# EAGLE library part LCD-2.0INCH (library LCD-3.5INCH)
For use with coldtears electronics 2.1INCH ILI9325LCD
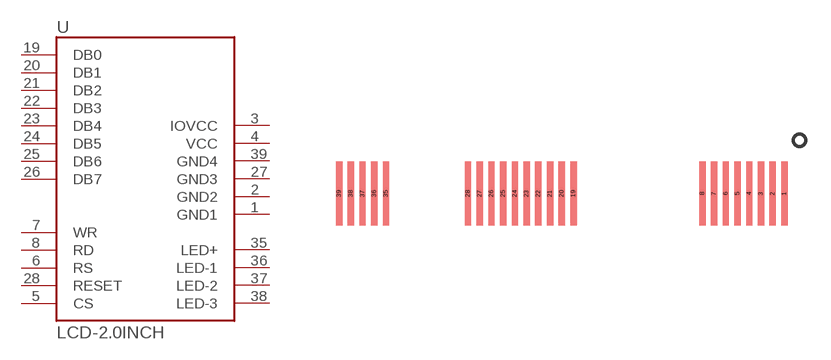
[diagram p2: symbol with the pads of LCD-2.0-40PIN-0.7; footprint LCD-2.0-40PIN-0.7]

Designator prefix -

## LCD-2.0INCH  [LCD-2.0-40PIN-0.7]
1  GND1
2  GND2
3  IOVCC
4  VCC
5  CS
6  RS
7  WR
8  RD
19  DB0
20  DB1
21  DB2
22  DB3
23  DB4
24  DB5
25  DB6
26  DB7
27  GND3
28  RESET
35  LED+
36  LED-1
37  LED-2
38  LED-3
39  GND4

## Footprint LCD-2.0-40PIN-0.7 (pad centres in mm)
smd 0.381 x 3.81: 1 7.5,-2.45; 2 6.8,-2.45; 3 6.1,-2.45; 4 5.4,-2.45; 5 4.7,-2.45; 6 4,-2.45; 7 3.3,-2.45; 8 2.6,-2.45; 19 -5.1,-2.45; 20 -5.8,-2.45; 21 -6.5,-2.45; 22 -7.2,-2.45; 23 -7.9,-2.45; 24 -8.6,-2.45; 25 -9.3,-2.45; 26 -10,-2.45; 27 -10.7,-2.45; 28 -11.4,-2.45; 35 -16.3,-2.45; 36 -17,-2.45; 37 -17.7,-2.45; 38 -18.4,-2.45; 39 -19.1,-2.45